# EAGLE library part CC3100MOD (library texas-instruments)
CC3100MOD SimpleLink™ Certified Wi-Fi® Network Processor Internet-of-Things Module Solution for MCU Applications Add Wi-Fi to low-cost, low-power microcontroller (MCU) for Internet of Things (IoT) applications. The CC3100MOD is FCC, IC, CE, and Wi-Fi CERTIFIED module is part of the new SimpleLink Wi-Fi family that dramatically simplifies the implementation of Internet connectivity. The CC3100MOD integrates all protocols for Wi-Fi and Internet, which greatly minimizes host MCU software requirements. With built-in security protocols, the CC3100MOD solution provides a robust and simple security experience. Additionally, the CC3100MOD is a complete platform solution including various tools and software, sample applications, user and programming guides, reference designs and the TI E2E support community. The CC3100MOD is available an LGA package that is easy to lay out with all required components including serial flash, RF filter, crystal, passive components fully integrated. The Wi-Fi network processor subsystem features a Wi-Fi Internet-on-a-Chip and contains an additional dedicated ARM MCU that completely off-loads the host MCU. This subsystem includes an 802.11 b/g/n radio, baseband, and MAC with a powerful crypto engine for fast, secure Internet connections with 256-bit encryption. The CC3100MOD module supports Station, Access Point, and Wi-Fi Direct modes. The module also supports WPA2 personal and enterprise security and WPS 2.0. This subsystem includes embedded TCP/IP and TLS/SSL stacks, HTTP server, and multiple Internet protocols. The power-management subsystem includes an integrated DC-DC converter with support for a wide range of supply voltages. This subsystem enables low-power consumption modes such as hibernate with RTC mode, which requires approximately 7 μA of current. The CC3100MOD module can connect to any 8-, 16-, or 32-bit MCU over the SPI or UART Interface. The device driver minimizes the host memory footprint requirements of less than 7KB of code memory and 700B of RAM memory for a TCP client application.
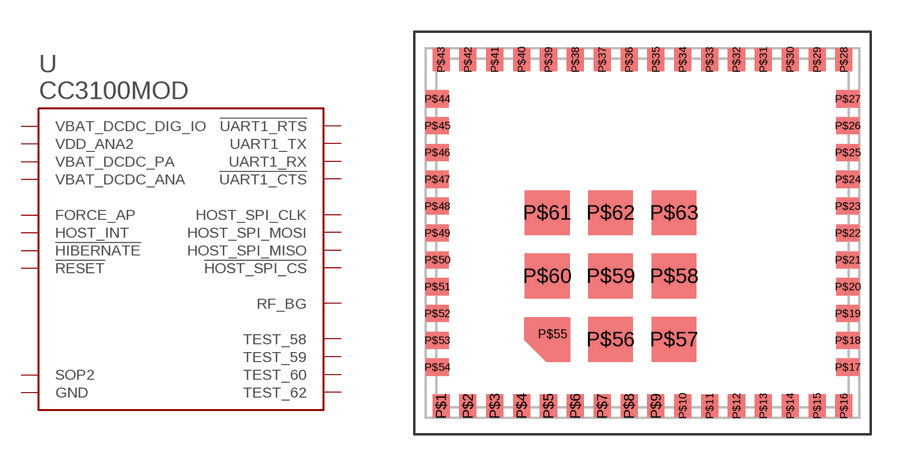
[diagram p13: symbol with the pads of MOD-LGA-63; footprint MOD-LGA-63]

Designator prefix U

## CC3100MODR11MAMOB  [MOD-LGA-63]
P$1  GND  pwr
P$2  GND  pwr
P$4  !HIBERNATE  in
P$5  HOST_SPI_CLK  in
P$6  HOST_SPI_MOSI  in
P$7  HOST_SPI_MISO  out
P$8  !HOST_SPI_CS  in
P$10  FORCE_AP  in
P$11  HOST_INT  out
P$16  GND  pwr
P$23  SOP2
P$27  GND  pwr
P$28  GND  pwr
P$30  GND  pwr
P$31  RF_BG
P$32  GND  pwr
P$35  !RESET  in
P$36  VBAT_DCDC_ANA  pwr
P$37  VBAT_DCDC_PA  pwr
P$38  GND  pwr
P$39  VDD_ANA2  pwr
P$40  VBAT_DCDC_DIG_IO  pwr
P$43  GND  pwr
P$44  !UART1_RTS  out
P$46  UART1_TX  out
P$47  UART1_RX  in
P$48  TEST_58  out
P$49  TEST_59  in
P$50  TEST_60  out
P$51  !UART1_CTS  in
P$52  TEST_62  out
P$55  GND  pwr
P$56  GND  pwr
P$57  GND  pwr
P$58  GND  pwr
P$59  GND  pwr
P$60  GND  pwr
P$61  GND  pwr
P$62  GND  pwr
P$63  GND  pwr

## Footprint MOD-LGA-63 (pad centres in mm)
smd 0.81 x 1.09: P$1 -9.525,-8.195; P$2 -8.255,-8.195; P$3 -6.985,-8.195; P$4 -5.715,-8.195; P$5 -4.445,-8.195; P$6 -3.175,-8.195; P$7 -1.905,-8.195; P$8 -0.635,-8.195; P$9 0.635,-8.195; P$10 1.905,-8.195; P$11 3.175,-8.195; P$12 4.445,-8.195; P$13 5.715,-8.195; P$14 6.985,-8.195; P$15 8.255,-8.195; P$16 9.525,-8.195; P$28 9.525,8.195; P$29 8.255,8.195; P$30 6.985,8.195; P$31 5.715,8.195; P$32 4.445,8.195; P$33 3.175,8.195; P$34 1.905,8.195; P$35 0.635,8.195; P$36 -0.635,8.195; P$37 -1.905,8.195; P$38 -3.175,8.195; P$39 -4.445,8.195; P$40 -5.715,8.195; P$41 -6.985,8.195; P$42 -8.255,8.195; P$43 -9.525,8.195
smd 1.09 x 0.81: P$17 9.705,-6.355; P$18 9.705,-5.085; P$19 9.705,-3.815; P$20 9.705,-2.545; P$21 9.705,-1.275; P$22 9.705,-0.005; P$23 9.705,1.265; P$24 9.705,2.535; P$25 9.705,3.805; P$26 9.705,5.075; P$27 9.705,6.345; P$44 -9.705,6.345; P$45 -9.705,5.075; P$46 -9.705,3.805; P$47 -9.705,2.535; P$48 -9.705,1.265; P$49 -9.705,-0.005; P$50 -9.705,-1.275; P$51 -9.705,-2.545; P$52 -9.705,-3.815; P$53 -9.705,-5.085; P$54 -9.705,-6.355
smd 1.27 x 1.27: P$55 -4.25,-4.8
smd 2.11 x 2.11: P$56 -1.505,-5.04; P$57 1.495,-5.04; P$58 1.495,-2.04; P$59 -1.505,-2.04; P$60 -4.505,-2.04; P$61 -4.505,0.96; P$62 -1.505,0.96; P$63 1.495,0.96